# Altium footprint library Passive_Old.PcbLib: 221 footprints (part 7 of 14)
Each footprint in its own frame and in the unit in brackets; x right, y up, seen from the top. Pads: shape width x height; smd on the part's side, far side on the other; paste and mask are expansions set on the pad; w line width, h text height; cw(c..) or ccw(c..) is an arc to the next point about the centre after c.
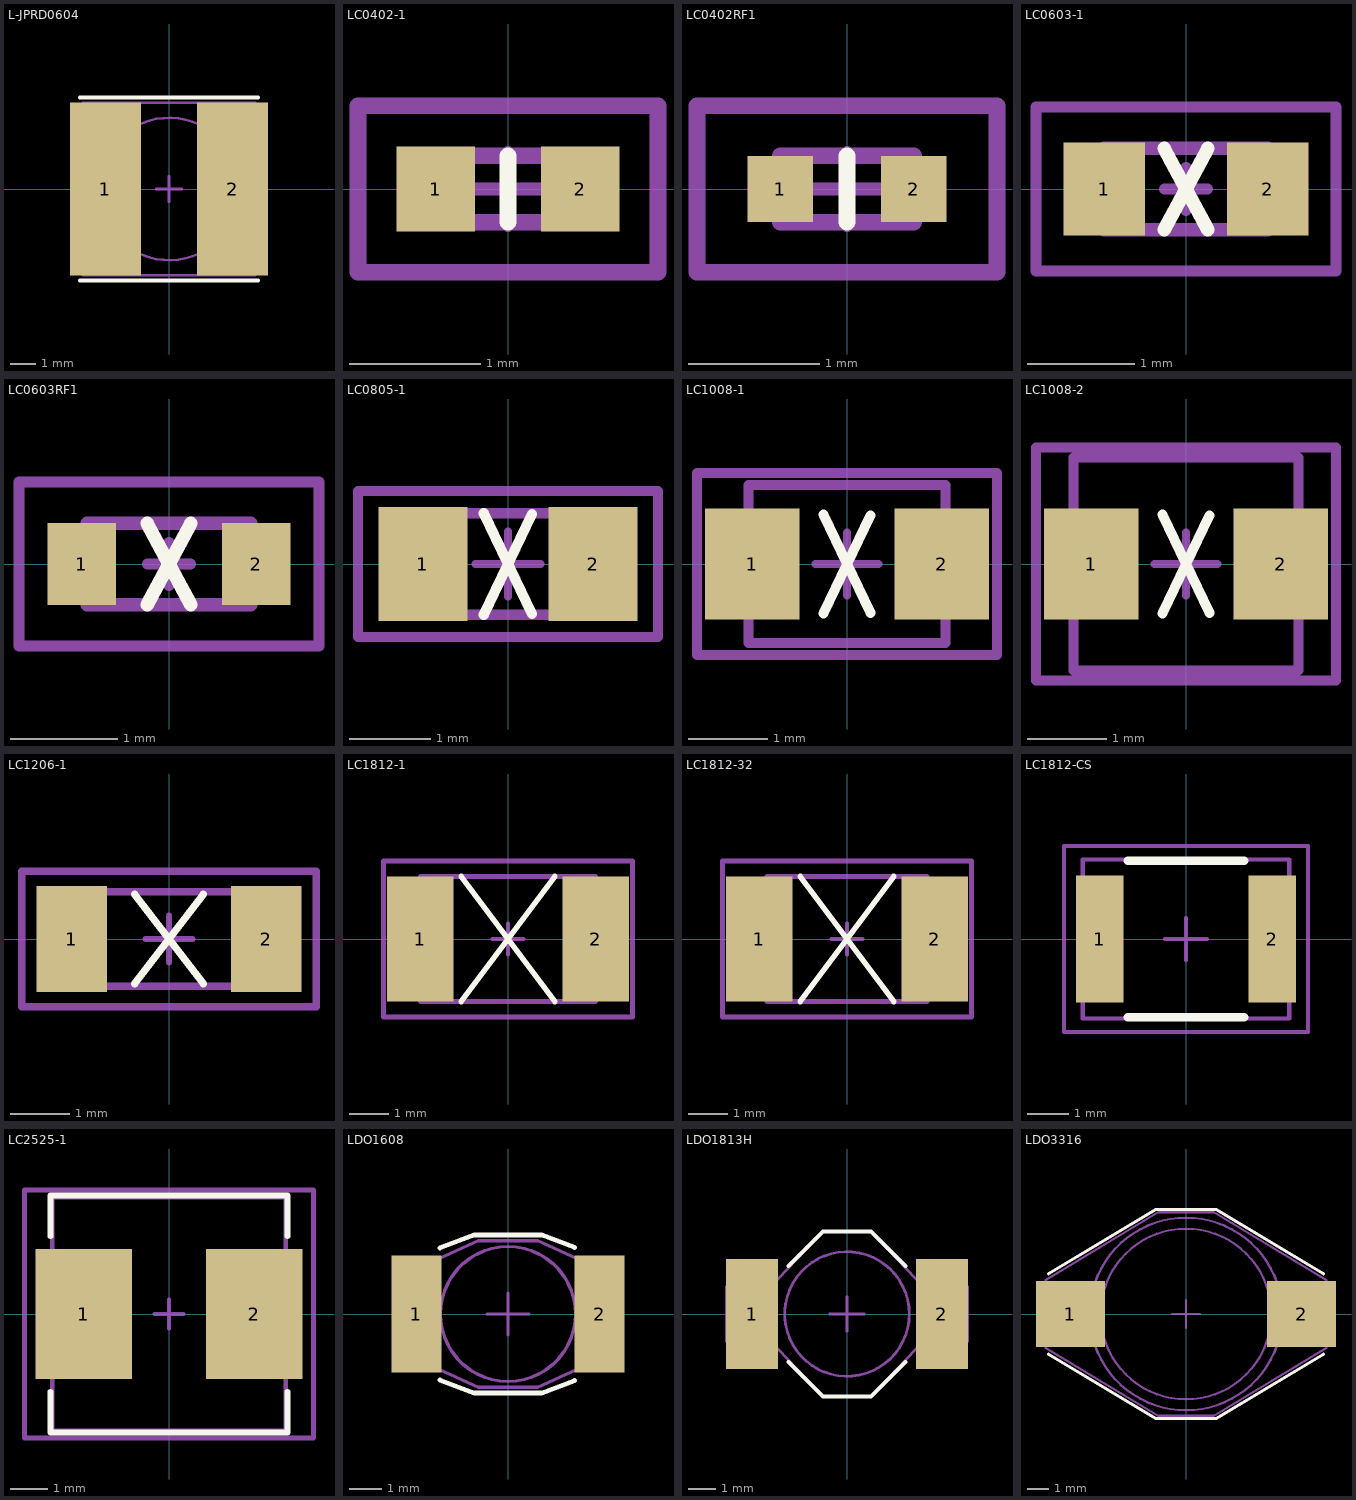
[diagram p6: the footprints below, top view; thin cyan lines are the x and y axes]

## L-JPRD0604 [mm] "SMD inductor 6.7x6.7x4mm shielded"
height 4.5
pads (2):
  rect 2.8x6.8 smd: 1(-2.5,0) 2(2.5,0)
Top Overlay:
  lines w0.15: -3.5,-3.6 3.5,-3.6 ; -3.5,3.6 3.5,3.6
Mechanical 13:
  circle w0.1: c0,0 r2.8
  lines w0.102: -3.4,-3.4 3.4,-3.4 3.4,3.4 -3.4,3.4 -3.4,-3.4
Mechanical 15:
  lines w0.102: -0.5,0 0.5,0 ; 0,-0.5 0,0.5
3D body: height 4.5, standoff 0, extent -3.4,-3.4 3.4,3.4

## LC0402-1 [mm] "Chip inductor 0402"
height 1.5
pads (2):
  rect 0.6x0.65 smd: 1(-0.55,0) 2(0.55,0)
Top Overlay:
  lines w0.127: 0,-0.254 0,0.254
Mechanical 13:
  lines w0.127: -0.508,-0.254 0.508,-0.254 0.508,0.254 -0.508,0.254 -0.508,-0.254
Mechanical 15:
  lines w0.102: -0.3,0 0.3,0 ; 0,-0.275 0,0.275
  lines w0.127: -1.143,-0.635 -1.143,0.635 1.143,0.635 1.143,-0.635 -1.143,-0.635
3D body: height 0.4, standoff 0, extent -0.508,-0.254 0.508,0.254

## LC0402RF1 [mm] "Chip inductor 0402 RF pad"
height 1.5
pads (2):
  rect 0.5x0.5 smd: 1(-0.508,0) 2(0.508,0)
Top Overlay:
  lines w0.127: 0,-0.254 0,0.254
Mechanical 13:
  lines w0.127: -0.508,-0.254 0.508,-0.254 0.508,0.254 -0.508,0.254 -0.508,-0.254
Mechanical 15:
  lines w0.102: -0.3,0 0.3,0 ; 0,-0.275 0,0.275
  lines w0.127: -1.143,-0.635 -1.143,0.635 1.143,0.635 1.143,-0.635 -1.143,-0.635
3D body: height 0.5, standoff 0, extent -0.3,-0.254 0.3,0.254
3D body: height 0.5, standoff 0, extent 0.3,-0.254 0.508,0.254
3D body: height 0.5, standoff 0, extent -0.508,-0.254 -0.3,0.254

## LC0603-1 [mil] "Chip  inductor  0603 (1608)"
height 59.06
pads (2):
  rect 30x34 smd: 1(-30,0) 2(30,0)
Top Overlay:
  lines w5: -8,-15 8,15 ; -8,15 8,-15
Mechanical 13:
  lines w5: -30,-15 -30,15 30,15 30,-15 -30,-15
Mechanical 15:
  lines w3.94: -7.87,0 7.87,0 ; 0,-7.87 0,7.87
  lines w4: -55,-30 -55,30 55,30 55,-30 -55,-30
3D body: height 27.56, standoff 0, extent -30,-15 -20,15
3D body: height 27.56, standoff 0, extent 20,-15 30,15
3D body: height 27.56, standoff 0, extent -20,-15 20,15

## LC0603RF1 [mil] "Chip  inductor  0603 RF pad"
height 59.06
pads (2):
  rect 25x30 smd: 1(-32,0) 2(32,0)
Top Overlay:
  lines w5: -8,-15 8,15 ; -8,15 8,-15
Mechanical 13:
  lines w5: -30,-15 30,-15 30,15 -30,15 -30,-15
Mechanical 15:
  lines w3.94: -7.87,0 7.87,0 ; 0,-7.87 0,7.87
  lines w4: -55,-30 55,-30 55,30 -55,30 -55,-30
3D body: height 27.56, standoff 0, extent -30,-15 -20,15
3D body: height 27.56, standoff 0, extent 20,-15 30,15
3D body: height 27.56, standoff 0, extent -20,-15 20,15

## LC0805-1 [mm] "Chip inductor  0805"
height 1.8
pads (2):
  rect 1.1x1.4 smd: 1(-1.05,0) 2(1.05,0)
Top Overlay:
  lines w0.127: -0.3,-0.625 0.296,0.616 ; -0.3,0.625 0.296,-0.618
Mechanical 13:
  lines w0.127: -1,-0.625 -1,0.625 1,0.625 1,-0.625 -1,-0.625
Mechanical 15:
  lines w0.102: -0.4,0 0.4,0 ; 0,-0.4 0,0.4
  lines w0.127: -1.85,-0.9 -1.85,0.9 1.85,0.9 1.85,-0.9 -1.85,-0.9
3D body: height 1.35, standoff 0, extent 0.673,-0.625 1,0.625
3D body: height 1.35, standoff 0, extent -0.673,-0.625 0.673,0.625
3D body: height 1.35, standoff 0, extent -1,-0.625 -0.673,0.625

## LC1008-1 [mm] "Chip inductor  1008"
height 2
pads (2):
  rect 1.2x1.4 smd: 1(-1.2,0) 2(1.2,0)
Top Overlay:
  lines w0.127: -0.3,-0.625 0.296,0.616 ; -0.3,0.625 0.296,-0.618
Mechanical 13:
  lines w0.127: -1.25,-1 1.25,-1 1.25,1 -1.25,1 -1.25,-1
Mechanical 15:
  lines w0.102: -0.4,0 0.4,0 ; 0,-0.4 0,0.4
  lines w0.127: -1.9,-1.15 -1.9,1.15 1.9,1.15 1.9,-1.15 -1.9,-1.15
3D body: height 1.35, standoff 0, extent -1.25,-1 1.25,1

## LC1008-2 [mm] "Chip inductor  1008 2.84x2.73mm"
height 2.2
pads (2):
  rect 1.2x1.4 smd: 1(-1.2,0) 2(1.2,0)
Top Overlay:
  lines w0.127: -0.3,-0.625 0.296,0.616 ; -0.3,0.625 0.296,-0.618
Mechanical 13:
  lines w0.127: -1.425,-1.35 1.425,-1.35 1.425,1.35 -1.425,1.35 -1.425,-1.35
Mechanical 15:
  lines w0.102: -0.4,0 0.4,0 ; 0,-0.4 0,0.4
  lines w0.127: -1.9,-1.475 -1.9,1.475 1.9,1.475 1.9,-1.475 -1.9,-1.475
3D body: height 0.7, standoff 0, extent -1.55,-0.6 1.55,0.6
3D body: height 1.4, standoff 0, extent -1.425,-1.346 1.425,1.346

## LC1206-1 [mm] "Chip inductor 1206 (3216)"
height 2
pads (2):
  rect 1.2x1.8 smd: 1(-1.65,0) 2(1.65,0)
Top Overlay:
  lines w0.127: -0.584,-0.762 0.584,0.762 ; -0.584,0.762 0.584,-0.762
Mechanical 13:
  lines w0.127: -1.6,-0.8 1.6,-0.8 1.6,0.8 -1.6,0.8 -1.6,-0.8
Mechanical 15:
  lines w0.102: -0.4,0 0.4,0 ; 0,-0.4 0,0.4
  lines w0.127: -2.5,-1.15 -2.5,1.15 2.5,1.15 2.5,-1.15 -2.5,-1.15
3D body: height 1.3, standoff 0, extent -1.6,-0.8 1.6,0.8

## LC1812-1 [mm] "Chip capacitor 1812 (4532)"
height 1.3
pads (2):
  rect 1.7x3.2 smd: 1(-2.25,0) 2(2.25,0)
Top Overlay:
  lines w0.15: -1.2,-1.6 1.2,1.6 ; -1.2,1.6 1.2,-1.6
Mechanical 13:
  lines w0.127: -2.25,-1.6 2.25,-1.6 2.25,1.6 -2.25,1.6 -2.25,-1.6
Mechanical 15:
  lines w0.102: -0.4,0 0.4,0 ; 0,-0.4 0,0.4
  lines w0.127: -3.2,-2 -3.2,2 3.2,2 3.2,-2 -3.2,-2
3D body: height 1.3, standoff 0, extent -2.25,-1.6 2.25,1.6

## LC1812-32 [mm] "Chip capacitor 1812 (4532) 4.5x3.2x3.2mm"
height 3.2
pads (2):
  rect 1.7x3.2 smd: 1(-2.25,0) 2(2.25,0)
Top Overlay:
  lines w0.15: -1.2,-1.6 1.2,1.6 ; -1.2,1.6 1.2,-1.6
Mechanical 13:
  lines w0.1: -2.075,-1.3 -2.25,-1.3 -2.25,1.3 -2.05,1.3 ; 2.05,-1.3 2.25,-1.3 2.25,1.3 2.075,1.3
  lines w0.127: -2.05,-1.6 2.05,-1.6 2.05,1.6 -2.05,1.6 -2.05,-1.6
Mechanical 15:
  lines w0.102: -0.4,0 0.4,0 ; 0,-0.4 0,0.4
  lines w0.127: -3.2,-2 -3.2,2 3.2,2 3.2,-2 -3.2,-2
3D body: height 3.2, standoff 0, extent -2.054,-1.604 2.054,1.604
3D body: height 0.7, standoff 0, extent -2.25,-1.3 -2.05,1.3
3D body: height 0.7, standoff 0, extent 2.05,-1.3 2.25,1.3

## LC1812-CS [mm] "Chip Inductor, 2-Leads, Body 4,9x3,8mm, IPC Medium Density"
height 3.43
pads (2):
  rect 1.14x3.05 smd: 1(-2.07,0) 2(2.07,0)
Top Overlay:
  lines w0.2: -1.4,-1.875 1.4,-1.875 ; -1.4,1.875 1.4,1.875
Mechanical 13:
  lines w0.1: -2.475,-1.905 -2.475,1.905 2.475,1.905 2.475,-1.905 -2.475,-1.905
Mechanical 15:
  lines w0.1: -0.5,0 0.5,0 ; 0,-0.5 0,0.5 ; -2.921,-2.225 -2.921,2.225 2.921,2.225 2.921,-2.225 -2.921,-2.225
3D body: height 3.43, standoff 0, extent -2.475,-1.905 2.475,1.905

## LC2525-1 [mm] "Chip capacitor 6.3x6.3x4.7mm"
height 4.7
pads (2):
  rect 2.6x3.5 smd: 1(-2.3,0) 2(2.3,0)
Top Overlay:
  lines w0.15: -3.2,-2.1 -3.2,-3.2 3.2,-3.2 3.2,-2.1 ; -3.2,2.1 -3.2,3.2 3.2,3.2 3.2,2.1
Mechanical 13:
  lines w0.127: -3.15,-3.15 3.15,-3.15 3.15,3.15 -3.15,3.15 -3.15,-3.15
Mechanical 15:
  lines w0.102: -0.4,0 0.4,0 ; 0,-0.4 0,0.4
  lines w0.127: -3.9,-3.35 -3.9,3.35 3.9,3.35 3.9,-3.35 -3.9,-3.35
3D body: height 4.7, standoff 1, extent -3.15,-3.15 3.15,3.15
3D body: height 1, standoff 0, extent -2.75,-2.65 -1,2.65
3D body: height 1, standoff 0, extent 1,-2.65 2.75,2.65
3D body: height 1, standoff 0.15, extent -1,-2.65 1,2.65

## LDO1608 [mil]
height 118.11
pads (2):
  rect 60x140 smd: 1(-110,0) 2(110,0)
Top Overlay:
  lines w5.91: -81.64,-79.38 -40,-95 40,-95 80,-80 ; -81.64,79.38 -40,95 40,95 80,80
Mechanical 13:
  circle w4: c0,0 r81
  lines w4: -130,-45 -35,-88 35,-88 130,-45 130,45 35,88 -35,88 -130,45 -130,-45
Mechanical 15:
  lines w4: -25,0 25,0 ; 0,-25 0,25
3D body: height 31.5, standoff 0, extent -130,-88 130,88
3D body: height 118.11, standoff 102.36, extent -81.1,-81.1 81.1,81.1
3D body: height 102.36, standoff 31.5, extent -75.17,-75.17 75.17,75.17

## LDO1813H [mil] "Power Inductor 9x6x5mm"
height 196.85
pads (2):
  rect 75x160 smd: 1(-138,0) 2(137.99,0)
Top Overlay:
  lines w5.91: -85,-70 -35,-120 35,-120 85,-70 ; -85,70 -35,120 35,120 85,70
Mechanical 13:
  circle w4.02: c0,0 r90.55
  lines w4: -175,-40 -175,40 -125,25 -35,120 35,120 125,25 175,40 175,-40 125,-25 35,-120 -35,-120 -125,-25 -175,-40
Mechanical 15:
  lines w4: -25,0 25,0 ; 0,-25 0,25
3D body: height 78.74, standoff 0, extent -175,-120 175,120
3D body: height 157.48, standoff 78.74, extent -90.44,-90.44 90.99,90.44
3D body: height 196.85, standoff 157.48, extent -90.44,-90.44 90.99,90.44

## LDO3316 [mil] "DO3316 power inductor smd"
height 205.12
pads (2):
  rect 125x120 smd: 1(-210,0) 2(210,0)
Top Overlay:
  lines w5.91: -250,-73 -55,-190 55,-190 250,-73 ; -250,73 -55,190 55,190 250,73
Mechanical 13:
  circle w4: c0,0 r155
  circle w4: c0,0 r175
  lines w4: -255,-62 -255,62 -50,185 50,185 255,62 255,-62 50,-185 -50,-185 -255,-62
Mechanical 15:
  lines w4: -25,0 25,0 ; 0,-25 0,25
3D body: height 185.04, standoff 59.06, extent -155.48,-155.48 155.48,155.48
3D body: height 59.06, standoff 0, extent -254.99,-185 255.01,185
3D body: height 205.12, standoff 185.04, extent -175.38,-175.38 175.38,175.38